# EAGLE library part POTENTIOMETER-ALPHA-16MM_DUAL (library EURACK-MASTER-LIB)
Dual 16mm Alpha Potentiometer, pcb mount
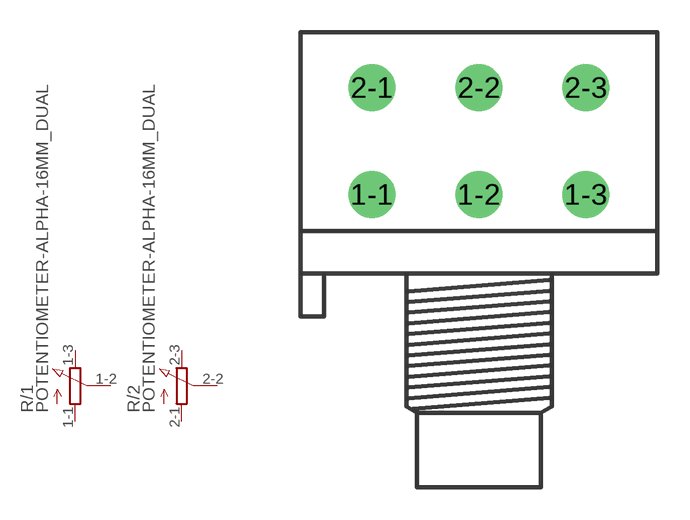
[diagram p3: symbol with the pads of 16MM_DUAL; footprint 16MM_DUAL]

Designator prefix R; gates /1=POT_EU- /2=POT_EU-

## POTENTIOMETER-ALPHA-16MM_DUAL  [16MM_DUAL]
1-1  /1:A  pas
1-2  /1:S  pas
1-3  /1:E  pas
2-1  /2:A  pas
2-2  /2:S  pas
2-3  /2:E  pas

## Footprint 16MM_DUAL (pad centres in mm)
Dual 16mm Alpha Potentiometer, pcb mount
drill 1.2 pad 2.184: 1-1 -5,0; 1-2 0,0; 1-3 5,0; 2-1 -5,5; 2-2 0,5; 2-3 5,5